# Altium integrated library Linear Technology Operational Amplifiers (LT1000).IntLib: 2280 symbols (part 4 of 79)
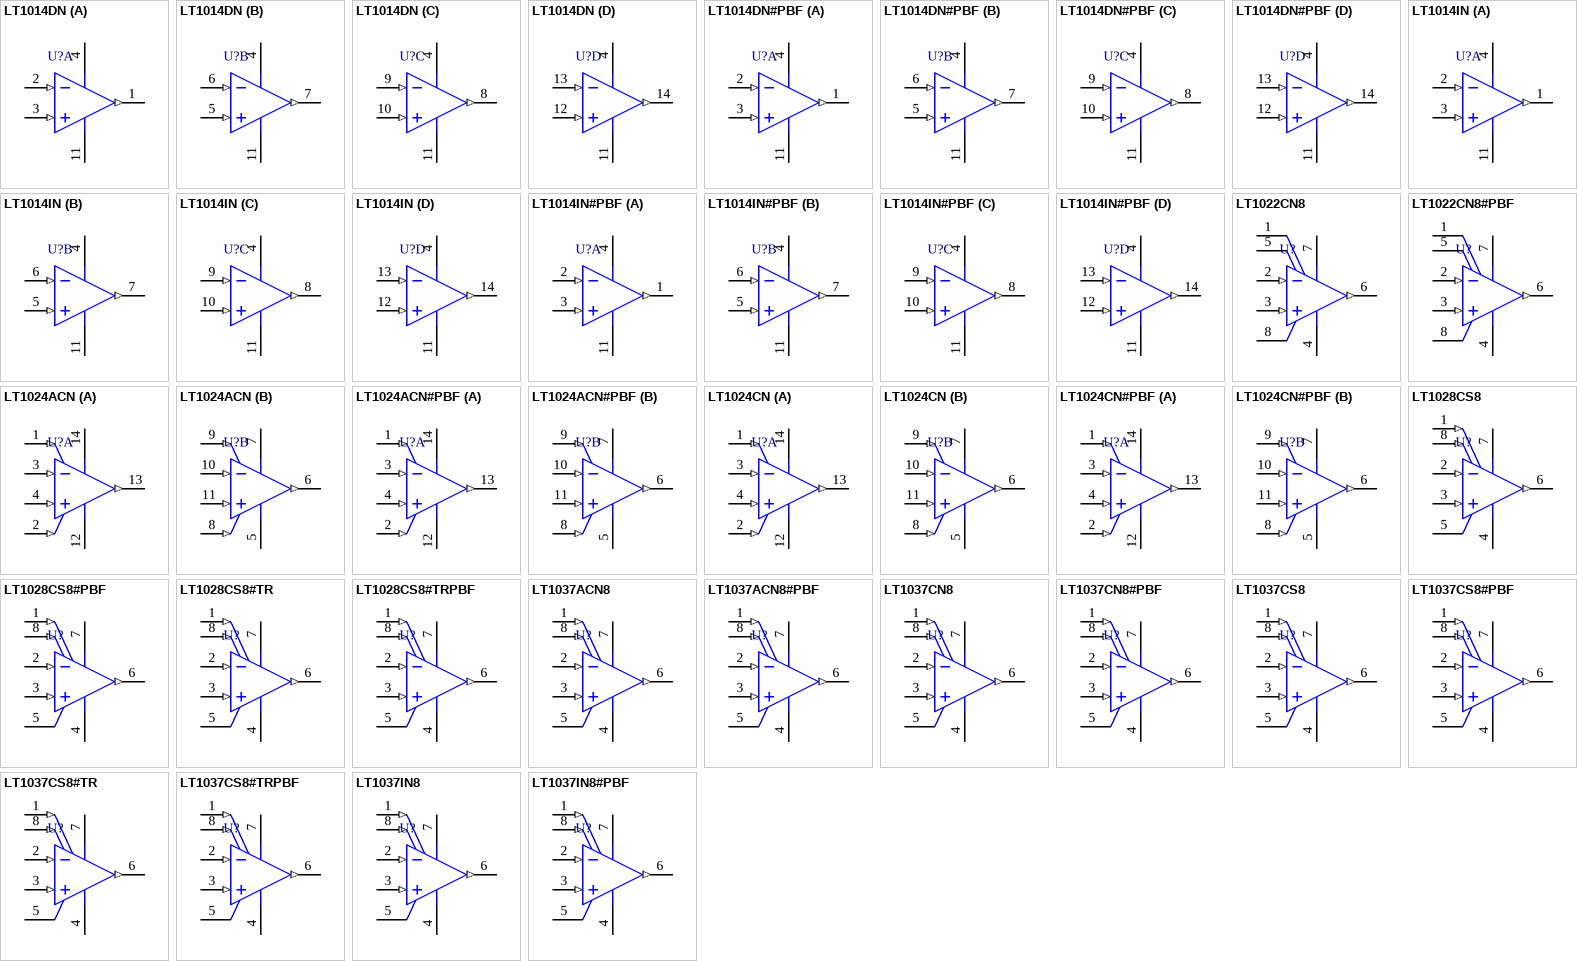
[diagram p108: symbols LT1014DN to LT1037IN8#PBF]

## LT1037CS8#TR
designator U?
Single Channel, Extremely low noise Operational Amplifier, 60 MHz Typical GBW, 15 V/us Typical SR, 8 to 44 V, 8-Pin SOIC (S8-8), Commerical, Reel; Linear Technology Part Number: LT1037; Manufacturer: Linear Technology; PartNumber: LT1037CS8#TR; Channels (#): 1; GBW (MHz) Typical: 60; Is (mA) Typical: 2.6; SR (V/us) Typical: 15; Vos (mV) Typical: 0.01; Vs Max (V): 44; Vs Min (V): 8; DatasheetVersion: Rev. B; PackageVersion: Rev G; PackageReference: LT-S8-8; PackageDescription: 8-Pin Plastic Small Outline, Body 4.9 x 3.9 mm, Pitch 1.27 mm; Supplier 1: Digi-Key; Supplier Part Number 1: LT1037CS8#TR-ND; Packing: Reel; Type: VFB; Mounting Technology: Surface Mount; ComponentLink1Description: Manufacturer URL; ComponentLink1URL: http://www.linear.com/; ComponentLink2Description: Datasheet; ComponentLink2URL: http://cds.linear.com/docs/en/datasheet/100737fbs.pdf; ComponentLink3Description: Package Specification; ComponentLink3URL: http://cds.linear.com/docs/en/packaging/05081610_G_SO8.pdf
footprint LT-S8-8_N (SOIC, 8-Leads, Body 4.9x3.9mm, Pitch 1.27mm, IPC Medium Density)
footprint LT-S8-8_L (SOIC, 8-Leads, Body 4.9x3.9mm, Pitch 1.27mm, IPC High Density)
footprint LT-S8-8_M (SOIC, 8-Leads, Body 4.9x3.9mm, Pitch 1.27mm, IPC Low Density)
pins: 1 VOS TRIM (in), 2 -IN (in), 3 +IN (in), 4 V- (power), 5 NC, 6 OUT (out), 7 V+ (power), 8 VOS TRIM (in)

## LT1037CS8#TRPBF
designator U?
Single Channel, Extremely low noise Operational Amplifier, 60 MHz Typical GBW, 15 V/us Typical SR, 8 to 44 V, 8-Pin SOIC (S8-8), Commerical, Pb-Free, Reel; Linear Technology Part Number: LT1037; Manufacturer: Linear Technology; PartNumber: LT1037CS8#TRPBF; Channels (#): 1; GBW (MHz) Typical: 60; Is (mA) Typical: 2.6; SR (V/us) Typical: 15; Vos (mV) Typical: 0.01; Vs Max (V): 44; Vs Min (V): 8; DatasheetVersion: Rev. B; PackageVersion: Rev G; PackageReference: LT-S8-8; PackageDescription: 8-Pin Plastic Small Outline, Body 4.9 x 3.9 mm, Pitch 1.27 mm; Supplier 1: Digi-Key; Supplier Part Number 1: LT1037CS8#TRPBF-ND; Supplier 2: Newark; Supplier Part Number 2: 57M1147; Packing: Reel; RoHS: Pb-Free; Type: VFB; Mounting Technology: Surface Mount; ComponentLink1Description: Manufacturer URL; ComponentLink1URL: http://www.linear.com/; ComponentLink2Description: Datasheet; ComponentLink2URL: http://cds.linear.com/docs/en/datasheet/100737fbs.pdf; ComponentLink3Description: Package Specification; ComponentLink3URL: http://cds.linear.com/docs/en/packaging/05081610_G_SO8.pdf
footprint LT-S8-8_N (SOIC, 8-Leads, Body 4.9x3.9mm, Pitch 1.27mm, IPC Medium Density)
footprint LT-S8-8_L (SOIC, 8-Leads, Body 4.9x3.9mm, Pitch 1.27mm, IPC High Density)
footprint LT-S8-8_M (SOIC, 8-Leads, Body 4.9x3.9mm, Pitch 1.27mm, IPC Low Density)
pins: 1 VOS TRIM (in), 2 -IN (in), 3 +IN (in), 4 V- (power), 5 NC, 6 OUT (out), 7 V+ (power), 8 VOS TRIM (in)

## LT1037IN8
designator U?
Single Channel, Extremely low noise Operational Amplifier, 60 MHz Typical GBW, 15 V/us Typical SR, 8 to 44 V, 8-Pin DIP (N8-8), Industrial; Linear Technology Part Number: LT1037; Manufacturer: Linear Technology; PartNumber: LT1037IN8; Channels (#): 1; GBW (MHz) Typical: 60; Is (mA) Typical: 2.6; SR (V/us) Typical: 15; Vos (mV) Typical: 0.01; Vs Max (V): 44; Vs Min (V): 8; DatasheetVersion: Rev. B; PackageVersion: Rev I; PackageReference: LT-N8-8; PackageDescription: 8-Lead PDIP, Body 10.16 x 6.48 mm, Pitch 2.54 mm; Supplier 1: Digi-Key; Supplier Part Number 1: LT1037IN8-ND; Type: VFB; Mounting Technology: Surface Mount; ComponentLink1Description: Manufacturer URL; ComponentLink1URL: http://www.linear.com/; ComponentLink2Description: Datasheet; ComponentLink2URL: http://cds.linear.com/docs/en/datasheet/100737fbs.pdf; ComponentLink3Description: Package Specification; ComponentLink3URL: http://cds.linear.com/docs/en/packaging/05081510_I_N8.pdf
footprint LT-N8-8 (DIP, 8-Leads, Body 10.16x6.48mm, Pitch 2.54mm)
pins: 1 VOS TRIM (in), 2 -IN (in), 3 +IN (in), 4 V- (power), 5 NC, 6 OUT (out), 7 V+ (power), 8 VOS TRIM (in)

## LT1037IN8#PBF
designator U?
Single Channel, Extremely low noise Operational Amplifier, 60 MHz Typical GBW, 15 V/us Typical SR, 8 to 44 V, 8-Pin DIP (N8-8), Industrial, Pb-Free; Linear Technology Part Number: LT1037; Manufacturer: Linear Technology; PartNumber: LT1037IN8#PBF; Channels (#): 1; GBW (MHz) Typical: 60; Is (mA) Typical: 2.6; SR (V/us) Typical: 15; Vos (mV) Typical: 0.01; Vs Max (V): 44; Vs Min (V): 8; DatasheetVersion: Rev. B; PackageVersion: Rev I; PackageReference: LT-N8-8; PackageDescription: 8-Lead PDIP, Body 10.16 x 6.48 mm, Pitch 2.54 mm; Supplier 1: Digi-Key; Supplier Part Number 1: LT1037IN8#PBF-ND; RoHS: Pb-Free; Type: VFB; Mounting Technology: Through Hole; ComponentLink1Description: Manufacturer URL; ComponentLink1URL: http://www.linear.com/; ComponentLink2Description: Datasheet; ComponentLink2URL: http://cds.linear.com/docs/en/datasheet/100737fbs.pdf; ComponentLink3Description: Package Specification; ComponentLink3URL: http://cds.linear.com/docs/en/packaging/05081510_I_N8.pdf
footprint LT-N8-8 (DIP, 8-Leads, Body 10.16x6.48mm, Pitch 2.54mm)
pins: 1 VOS TRIM (in), 2 -IN (in), 3 +IN (in), 4 V- (power), 5 NC, 6 OUT (out), 7 V+ (power), 8 VOS TRIM (in)

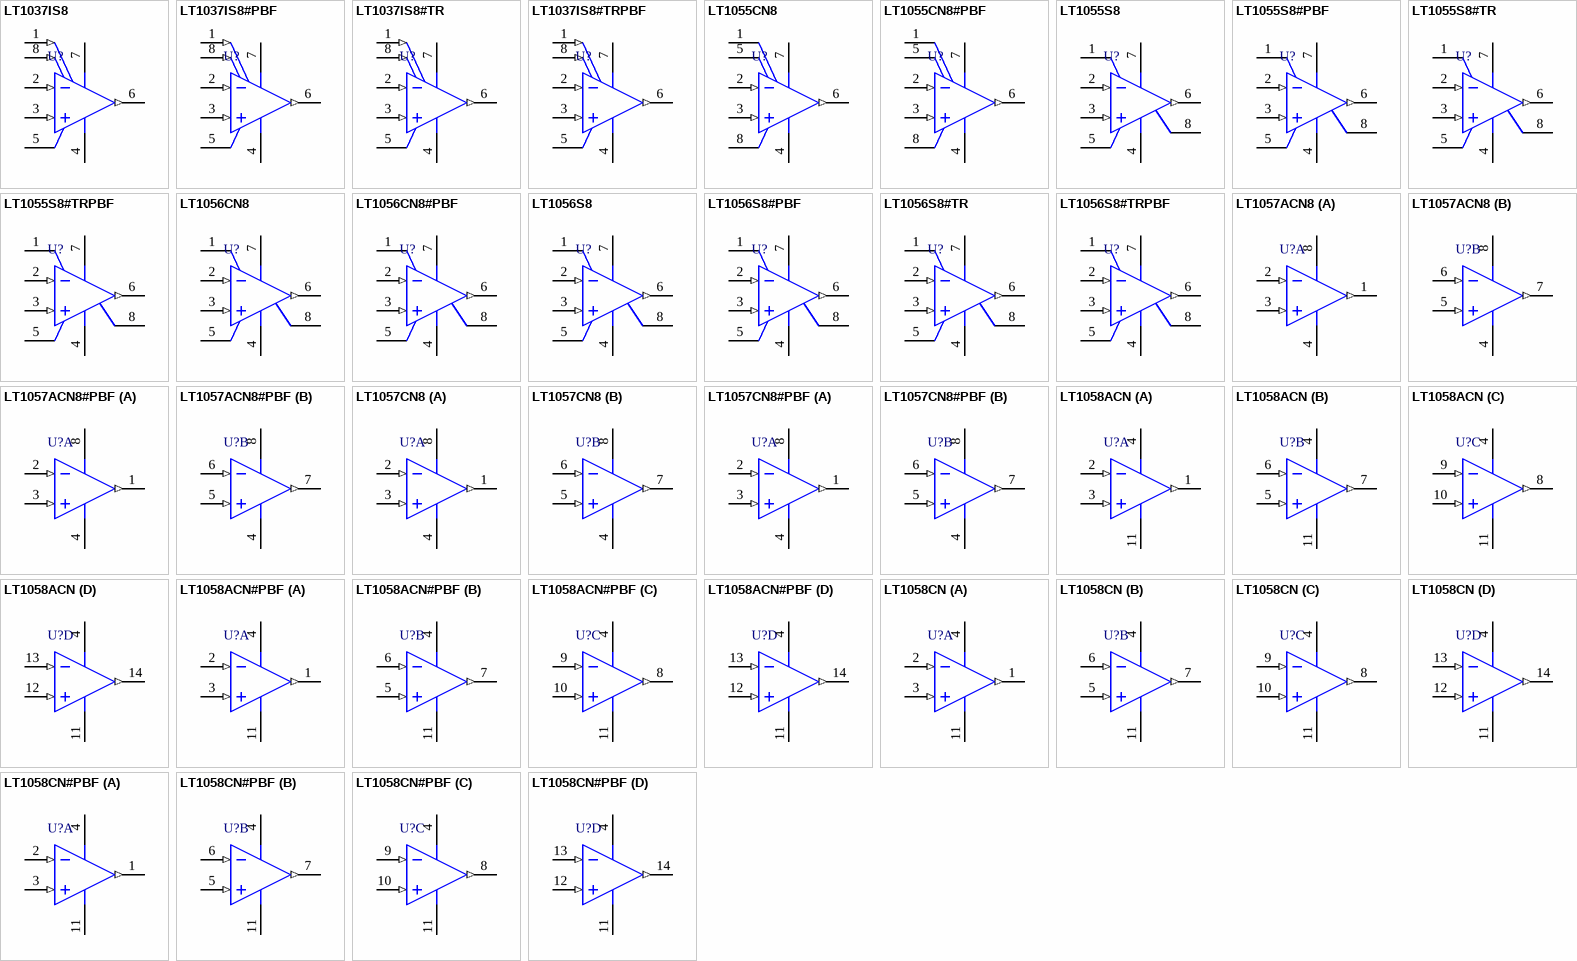
[diagram p4: symbols LT1037IS8 to LT1058CN#PBF]

## LT1037IS8
designator U?
Single Channel, Extremely low noise Operational Amplifier, 60 MHz Typical GBW, 15 V/us Typical SR, 8 to 44 V, 8-Pin SOIC (S8-8), Industrial; Linear Technology Part Number: LT1037; Manufacturer: Linear Technology; PartNumber: LT1037IS8; Channels (#): 1; GBW (MHz) Typical: 60; Is (mA) Typical: 2.6; SR (V/us) Typical: 15; Vos (mV) Typical: 0.01; Vs Max (V): 44; Vs Min (V): 8; DatasheetVersion: Rev. B; PackageVersion: Rev G; PackageReference: LT-S8-8; PackageDescription: 8-Pin Plastic Small Outline, Body 4.9 x 3.9 mm, Pitch 1.27 mm; Supplier 1: Digi-Key; Supplier Part Number 1: LT1037IS8-ND; Type: VFB; Mounting Technology: Surface Mount; ComponentLink1Description: Manufacturer URL; ComponentLink1URL: http://www.linear.com/; ComponentLink2Description: Datasheet; ComponentLink2URL: http://cds.linear.com/docs/en/datasheet/100737fbs.pdf; ComponentLink3Description: Package Specification; ComponentLink3URL: http://cds.linear.com/docs/en/packaging/05081610_G_SO8.pdf
footprint LT-S8-8_N (SOIC, 8-Leads, Body 4.9x3.9mm, Pitch 1.27mm, IPC Medium Density)
footprint LT-S8-8_L (SOIC, 8-Leads, Body 4.9x3.9mm, Pitch 1.27mm, IPC High Density)
footprint LT-S8-8_M (SOIC, 8-Leads, Body 4.9x3.9mm, Pitch 1.27mm, IPC Low Density)
pins: 1 VOS TRIM (in), 2 -IN (in), 3 +IN (in), 4 V- (power), 5 NC, 6 OUT (out), 7 V+ (power), 8 VOS TRIM (in)

## LT1037IS8#PBF
designator U?
Single Channel, Extremely low noise Operational Amplifier, 60 MHz Typical GBW, 15 V/us Typical SR, 8 to 44 V, 8-Pin SOIC (S8-8), Industrial, Pb-Free; Linear Technology Part Number: LT1037; Manufacturer: Linear Technology; PartNumber: LT1037IS8#PBF; Channels (#): 1; GBW (MHz) Typical: 60; Is (mA) Typical: 2.6; SR (V/us) Typical: 15; Vos (mV) Typical: 0.01; Vs Max (V): 44; Vs Min (V): 8; DatasheetVersion: Rev. B; PackageVersion: Rev G; PackageReference: LT-S8-8; PackageDescription: 8-Pin Plastic Small Outline, Body 4.9 x 3.9 mm, Pitch 1.27 mm; Supplier 1: Digi-Key; Supplier Part Number 1: LT1037IS8#PBF-ND; RoHS: Pb-Free; Type: VFB; Mounting Technology: Surface Mount; ComponentLink1Description: Manufacturer URL; ComponentLink1URL: http://www.linear.com/; ComponentLink2Description: Datasheet; ComponentLink2URL: http://cds.linear.com/docs/en/datasheet/100737fbs.pdf; ComponentLink3Description: Package Specification; ComponentLink3URL: http://cds.linear.com/docs/en/packaging/05081610_G_SO8.pdf
footprint LT-S8-8_N (SOIC, 8-Leads, Body 4.9x3.9mm, Pitch 1.27mm, IPC Medium Density)
footprint LT-S8-8_L (SOIC, 8-Leads, Body 4.9x3.9mm, Pitch 1.27mm, IPC High Density)
footprint LT-S8-8_M (SOIC, 8-Leads, Body 4.9x3.9mm, Pitch 1.27mm, IPC Low Density)
pins: 1 VOS TRIM (in), 2 -IN (in), 3 +IN (in), 4 V- (power), 5 NC, 6 OUT (out), 7 V+ (power), 8 VOS TRIM (in)

## LT1037IS8#TR
designator U?
Single Channel, Extremely low noise Operational Amplifier, 60 MHz Typical GBW, 15 V/us Typical SR, 8 to 44 V, 8-Pin SOIC (S8-8), Industrial, Reel; Linear Technology Part Number: LT1037; Manufacturer: Linear Technology; PartNumber: LT1037IS8#TR; Channels (#): 1; GBW (MHz) Typical: 60; Is (mA) Typical: 2.6; SR (V/us) Typical: 15; Vos (mV) Typical: 0.01; Vs Max (V): 44; Vs Min (V): 8; DatasheetVersion: Rev. B; PackageVersion: Rev G; PackageReference: LT-S8-8; PackageDescription: 8-Pin Plastic Small Outline, Body 4.9 x 3.9 mm, Pitch 1.27 mm; Supplier 1: Digi-Key; Supplier Part Number 1: LT1037IS8TR-ND; Packing: Reel; Type: VFB; Mounting Technology: Surface Mount; ComponentLink1Description: Manufacturer URL; ComponentLink1URL: http://www.linear.com/; ComponentLink2Description: Datasheet; ComponentLink2URL: http://cds.linear.com/docs/en/datasheet/100737fbs.pdf; ComponentLink3Description: Package Specification; ComponentLink3URL: http://cds.linear.com/docs/en/packaging/05081610_G_SO8.pdf
footprint LT-S8-8_N (SOIC, 8-Leads, Body 4.9x3.9mm, Pitch 1.27mm, IPC Medium Density)
footprint LT-S8-8_L (SOIC, 8-Leads, Body 4.9x3.9mm, Pitch 1.27mm, IPC High Density)
footprint LT-S8-8_M (SOIC, 8-Leads, Body 4.9x3.9mm, Pitch 1.27mm, IPC Low Density)
pins: 1 VOS TRIM (in), 2 -IN (in), 3 +IN (in), 4 V- (power), 5 NC, 6 OUT (out), 7 V+ (power), 8 VOS TRIM (in)

## LT1037IS8#TRPBF
designator U?
Single Channel, Extremely low noise Operational Amplifier, 60 MHz Typical GBW, 15 V/us Typical SR, 8 to 44 V, 8-Pin SOIC (S8-8), Industrial, Pb-Free, Reel; Linear Technology Part Number: LT1037; Manufacturer: Linear Technology; PartNumber: LT1037IS8#TRPBF; Channels (#): 1; GBW (MHz) Typical: 60; Is (mA) Typical: 2.6; SR (V/us) Typical: 15; Vos (mV) Typical: 0.01; Vs Max (V): 44; Vs Min (V): 8; DatasheetVersion: Rev. B; PackageVersion: Rev G; PackageReference: LT-S8-8; PackageDescription: 8-Pin Plastic Small Outline, Body 4.9 x 3.9 mm, Pitch 1.27 mm; Supplier 1: Digi-Key; Supplier Part Number 1: LT1037IS8#TRPBF-ND; Packing: Reel; RoHS: Pb-Free; Type: VFB; Mounting Technology: Surface Mount; ComponentLink1Description: Manufacturer URL; ComponentLink1URL: http://www.linear.com/; ComponentLink2Description: Datasheet; ComponentLink2URL: http://cds.linear.com/docs/en/datasheet/100737fbs.pdf; ComponentLink3Description: Package Specification; ComponentLink3URL: http://cds.linear.com/docs/en/packaging/05081610_G_SO8.pdf
footprint LT-S8-8_N (SOIC, 8-Leads, Body 4.9x3.9mm, Pitch 1.27mm, IPC Medium Density)
footprint LT-S8-8_L (SOIC, 8-Leads, Body 4.9x3.9mm, Pitch 1.27mm, IPC High Density)
footprint LT-S8-8_M (SOIC, 8-Leads, Body 4.9x3.9mm, Pitch 1.27mm, IPC Low Density)
pins: 1 VOS TRIM (in), 2 -IN (in), 3 +IN (in), 4 V- (power), 5 NC, 6 OUT (out), 7 V+ (power), 8 VOS TRIM (in)

## LT1055CN8
designator U?
Single Channel, Low Offset JFET Operational Amplifier, 4.5 MHz Typical GBW, 12 V/us Typical SR, 8 to 40 V, 8-Pin DIP (N8-8), Commercial; Linear Technology Part Number: LT1055; Manufacturer: Linear Technology; PartNumber: LT1055CN8; Channels (#): 1; GBW (MHz) Typical: 4.5; Is (mA) Typical: 2.8; SR (V/us) Typical: 12; Vos (mV) Typical: 0.12; Vs Max (V): 40; Vs Min (V): 8; DatasheetVersion: Rev. C; PackageVersion: Rev I; PackageReference: LT-N8-8; PackageDescription: 8-Lead PDIP, Body 10.16 x 6.48 mm, Pitch 2.54 mm; Supplier 1: Digi-Key; Supplier Part Number 1: LT1055CN8-ND; Supplier 2: Newark; Supplier Part Number 2: 57M1205; Type: JFET; Mounting Technology: Surface Mount; ComponentLink1Description: Manufacturer URL; ComponentLink1URL: http://www.linear.com/; ComponentLink2Description: Datasheet; ComponentLink2URL: http://cds.linear.com/docs/en/datasheet/10556fc.pdf; ComponentLink3Description: Package Specification; ComponentLink3URL: http://cds.linear.com/docs/en/packaging/05081510_I_N8.pdf
footprint LT-N8-8 (DIP, 8-Leads, Body 10.16x6.48mm, Pitch 2.54mm)
pins: 1 BAL, 2 -IN (in), 3 +IN (in), 4 V- (power), 5 BAL, 6 OUT (out), 7 V+ (power), 8 NC

## LT1055CN8#PBF
designator U?
Single Channel, Low Offset JFET Operational Amplifier, 4.5 MHz Typical GBW, 12 V/us Typical SR, 8 to 40 V, 8-Pin DIP (N8-8), Commercial, Pb-Free; Linear Technology Part Number: LT1055; Manufacturer: Linear Technology; PartNumber: LT1055CN8#PBF; Channels (#): 1; GBW (MHz) Typical: 4.5; Is (mA) Typical: 2.8; SR (V/us) Typical: 12; Vos (mV) Typical: 0.12; Vs Max (V): 40; Vs Min (V): 8; DatasheetVersion: Rev. C; PackageVersion: Rev I; PackageReference: LT-N8-8; PackageDescription: 8-Lead PDIP, Body 10.16 x 6.48 mm, Pitch 2.54 mm; Supplier 1: Digi-Key; Supplier Part Number 1: LT1055CN8#PBF-ND; Supplier 2: Farnell; Supplier Part Number 2: 2211386; Supplier 3: Newark; Supplier Part Number 3: 57M1206; RoHS: Pb-Free; Type: JFET; Mounting Technology: Through Hole; ComponentLink1Description: Manufacturer URL; ComponentLink1URL: http://www.linear.com/; ComponentLink2Description: Datasheet; ComponentLink2URL: http://cds.linear.com/docs/en/datasheet/10556fc.pdf; ComponentLink3Description: Package Specification; ComponentLink3URL: http://cds.linear.com/docs/en/packaging/05081510_I_N8.pdf
footprint LT-N8-8 (DIP, 8-Leads, Body 10.16x6.48mm, Pitch 2.54mm)
pins: 1 BAL, 2 -IN (in), 3 +IN (in), 4 V- (power), 5 BAL, 6 OUT (out), 7 V+ (power), 8 NC

## LT1055S8
designator U?
Single Channel, Low offset JFET Operational Amplifier, 4.5 MHz Typical GBW, 12 V/us Typical SR, 8 to 40 V, 8-Pin SOIC (S8-8), Commercial; Linear Technology Part Number: LT1055; Manufacturer: Linear Technology; PartNumber: LT1055S8; Channels (#): 1; GBW (MHz) Typical: 4.5; Is (mA) Typical: 2.8; SR (V/us) Typical: 12; Vos (mV) Typical: 0.12; Vs Max (V): 40; Vs Min (V): 8; DatasheetVersion: Rev. C; PackageVersion: Rev G; PackageReference: LT-S8-8; PackageDescription: 8-Pin Plastic Small Outline, Body 4.9 x 3.9 mm, Pitch 1.27 mm; Supplier 1: Digi-Key; Supplier Part Number 1: LT1055S8-ND; Type: JFET; Mounting Technology: Surface Mount; ComponentLink1Description: Manufacturer URL; ComponentLink1URL: http://www.linear.com/; ComponentLink2Description: Datasheet; ComponentLink2URL: http://cds.linear.com/docs/en/datasheet/10556fc.pdf; ComponentLink3Description: Package Specification; ComponentLink3URL: http://cds.linear.com/docs/en/packaging/05081610_G_SO8.pdf
footprint LT-S8-8_N (SOIC, 8-Leads, Body 4.9x3.9mm, Pitch 1.27mm, IPC Medium Density)
footprint LT-S8-8_L (SOIC, 8-Leads, Body 4.9x3.9mm, Pitch 1.27mm, IPC High Density)
footprint LT-S8-8_M (SOIC, 8-Leads, Body 4.9x3.9mm, Pitch 1.27mm, IPC Low Density)
pins: 1 BAL, 2 -IN (in), 3 +IN (in), 4 V- (power), 5 BAL, 6 OUT (out), 7 V+ (power), 8 NC

## LT1055S8#PBF
designator U?
Single Channel, Low offset JFET Operational Amplifier, 4.5 MHz Typical GBW, 12 V/us Typical SR, 8 to 40 V, 8-Pin SOIC (S8-8), Commercial, Pb-Free; Linear Technology Part Number: LT1055; Manufacturer: Linear Technology; PartNumber: LT1055S8#PBF; Channels (#): 1; GBW (MHz) Typical: 4.5; Is (mA) Typical: 2.8; SR (V/us) Typical: 12; Vos (mV) Typical: 0.12; Vs Max (V): 40; Vs Min (V): 8; DatasheetVersion: Rev. C; PackageVersion: Rev G; PackageReference: LT-S8-8; PackageDescription: 8-Pin Plastic Small Outline, Body 4.9 x 3.9 mm, Pitch 1.27 mm; Supplier 1: Digi-Key; Supplier Part Number 1: LT1055S8#PBF-ND; Supplier 2: Farnell; Supplier Part Number 2: 1330569; Supplier 3: Newark; Supplier Part Number 3: 57M1208; RoHS: Pb-Free; Type: JFET; Mounting Technology: Surface Mount; ComponentLink1Description: Manufacturer URL; ComponentLink1URL: http://www.linear.com/; ComponentLink2Description: Datasheet; ComponentLink2URL: http://cds.linear.com/docs/en/datasheet/10556fc.pdf; ComponentLink3Description: Package Specification; ComponentLink3URL: http://cds.linear.com/docs/en/packaging/05081610_G_SO8.pdf
footprint LT-S8-8_N (SOIC, 8-Leads, Body 4.9x3.9mm, Pitch 1.27mm, IPC Medium Density)
footprint LT-S8-8_L (SOIC, 8-Leads, Body 4.9x3.9mm, Pitch 1.27mm, IPC High Density)
footprint LT-S8-8_M (SOIC, 8-Leads, Body 4.9x3.9mm, Pitch 1.27mm, IPC Low Density)
pins: 1 BAL, 2 -IN (in), 3 +IN (in), 4 V- (power), 5 BAL, 6 OUT (out), 7 V+ (power), 8 NC

## LT1055S8#TR
designator U?
Single Channel, Low offset JFET Operational Amplifier, 4.5 MHz Typical GBW, 12 V/us Typical SR, 8 to 40 V, 8-Pin SOIC (S8-8), Commercial, Reel; Linear Technology Part Number: LT1055; Manufacturer: Linear Technology; PartNumber: LT1055S8#TR; Channels (#): 1; GBW (MHz) Typical: 4.5; Is (mA) Typical: 2.8; SR (V/us) Typical: 12; Vos (mV) Typical: 0.12; Vs Max (V): 40; Vs Min (V): 8; DatasheetVersion: Rev. C; PackageVersion: Rev G; PackageReference: LT-S8-8; PackageDescription: 8-Pin Plastic Small Outline, Body 4.9 x 3.9 mm, Pitch 1.27 mm; Supplier 1: Digi-Key; Supplier Part Number 1: LT1055S8#TR-ND; Packing: Reel; Type: JFET; Mounting Technology: Surface Mount; ComponentLink1Description: Manufacturer URL; ComponentLink1URL: http://www.linear.com/; ComponentLink2Description: Datasheet; ComponentLink2URL: http://cds.linear.com/docs/en/datasheet/10556fc.pdf; ComponentLink3Description: Package Specification; ComponentLink3URL: http://cds.linear.com/docs/en/packaging/05081610_G_SO8.pdf
footprint LT-S8-8_N (SOIC, 8-Leads, Body 4.9x3.9mm, Pitch 1.27mm, IPC Medium Density)
footprint LT-S8-8_L (SOIC, 8-Leads, Body 4.9x3.9mm, Pitch 1.27mm, IPC High Density)
footprint LT-S8-8_M (SOIC, 8-Leads, Body 4.9x3.9mm, Pitch 1.27mm, IPC Low Density)
pins: 1 BAL, 2 -IN (in), 3 +IN (in), 4 V- (power), 5 BAL, 6 OUT (out), 7 V+ (power), 8 NC

## LT1055S8#TRPBF
designator U?
Single Channel, Low offset JFET Operational Amplifier, 4.5 MHz Typical GBW, 12 V/us Typical SR, 8 to 40 V, 8-Pin SOIC (S8-8), Commercial, Pb-Free, Reel; Linear Technology Part Number: LT1055; Manufacturer: Linear Technology; PartNumber: LT1055S8#TRPBF; Channels (#): 1; GBW (MHz) Typical: 4.5; Is (mA) Typical: 2.8; SR (V/us) Typical: 12; Vos (mV) Typical: 0.12; Vs Max (V): 40; Vs Min (V): 8; DatasheetVersion: Rev. C; PackageVersion: Rev G; PackageReference: LT-S8-8; PackageDescription: 8-Pin Plastic Small Outline, Body 4.9 x 3.9 mm, Pitch 1.27 mm; Supplier 1: Digi-Key; Supplier Part Number 1: LT1055S8#TRPBF-ND; Supplier 2: Newark; Supplier Part Number 2: 57M1210; Packing: Reel; RoHS: Pb-Free; Type: JFET; Mounting Technology: Surface Mount; ComponentLink1Description: Manufacturer URL; ComponentLink1URL: http://www.linear.com/; ComponentLink2Description: Datasheet; ComponentLink2URL: http://cds.linear.com/docs/en/datasheet/10556fc.pdf; ComponentLink3Description: Package Specification; ComponentLink3URL: http://cds.linear.com/docs/en/packaging/05081610_G_SO8.pdf
footprint LT-S8-8_N (SOIC, 8-Leads, Body 4.9x3.9mm, Pitch 1.27mm, IPC Medium Density)
footprint LT-S8-8_L (SOIC, 8-Leads, Body 4.9x3.9mm, Pitch 1.27mm, IPC High Density)
footprint LT-S8-8_M (SOIC, 8-Leads, Body 4.9x3.9mm, Pitch 1.27mm, IPC Low Density)
pins: 1 BAL, 2 -IN (in), 3 +IN (in), 4 V- (power), 5 BAL, 6 OUT (out), 7 V+ (power), 8 NC

## LT1056CN8
designator U?
Single Channel, Low offset JFET Operational Amplifier, 5.5 MHz Typical GBW, 14 V/us Typical SR, 8 to 40 V, 8-Pin DIP (N8-8), Commerical; Linear Technology Part Number: LT1056; Manufacturer: Linear Technology; PartNumber: LT1056CN8; Channels (#): 1; GBW (MHz) Typical: 5.5; Is (mA) Typical: 5; SR (V/us) Typical: 14; Vos (mV) Typical: 0.14; Vs Max (V): 40; Vs Min (V): 8; DatasheetVersion: Rev. C; PackageVersion: Rev I; PackageReference: LT-N8-8; PackageDescription: 8-Lead PDIP, Body 10.16 x 6.48 mm, Pitch 2.54 mm; Supplier 1: Digi-Key; Supplier Part Number 1: LT1056CN8-ND; Supplier 2: Newark; Supplier Part Number 2: 57M1211; Type: JFET; Mounting Technology: Through Hole; ComponentLink1Description: Manufacturer URL; ComponentLink1URL: http://www.linear.com/; ComponentLink2Description: Datasheet; ComponentLink2URL: http://cds.linear.com/docs/en/datasheet/10556fc.pdf; ComponentLink3Description: Package Specification; ComponentLink3URL: http://cds.linear.com/docs/en/packaging/05081510_I_N8.pdf
footprint LT-N8-8 (DIP, 8-Leads, Body 10.16x6.48mm, Pitch 2.54mm)
pins: 1 BAL, 2 -IN (in), 3 +IN (in), 4 V- (power), 5 BAL, 6 OUT (out), 7 V+ (power), 8 NC

## LT1056CN8#PBF
designator U?
Single Channel, Low offset JFET Operational Amplifier, 5.5 MHz Typical GBW, 14 V/us Typical SR, 8 to 40 V, 8-Pin DIP (N8-8), Commerical, Pb-Free; Linear Technology Part Number: LT1056; Manufacturer: Linear Technology; PartNumber: LT1056CN8#PBF; Channels (#): 1; GBW (MHz) Typical: 5.5; Is (mA) Typical: 5; SR (V/us) Typical: 14; Vos (mV) Typical: 0.14; Vs Max (V): 40; Vs Min (V): 8; DatasheetVersion: Rev. C; PackageVersion: Rev I; PackageReference: LT-N8-8; PackageDescription: 8-Lead PDIP, Body 10.16 x 6.48 mm, Pitch 2.54 mm; Supplier 1: Digi-Key; Supplier Part Number 1: LT1056CN8#PBF-ND; Supplier 2: Farnell; Supplier Part Number 2: 2191700; Supplier 3: Newark; Supplier Part Number 3: 57M1212; RoHS: Pb-Free; Type: JFET; Mounting Technology: Surface Mount; ComponentLink1Description: Manufacturer URL; ComponentLink1URL: http://www.linear.com/; ComponentLink2Description: Datasheet; ComponentLink2URL: http://cds.linear.com/docs/en/datasheet/10556fc.pdf; ComponentLink3Description: Package Specification; ComponentLink3URL: http://cds.linear.com/docs/en/packaging/05081510_I_N8.pdf
footprint LT-N8-8 (DIP, 8-Leads, Body 10.16x6.48mm, Pitch 2.54mm)
pins: 1 BAL, 2 -IN (in), 3 +IN (in), 4 V- (power), 5 BAL, 6 OUT (out), 7 V+ (power), 8 NC

## LT1056S8
designator U?
Single Channel, Low offset JFET Operational Amplifier, 5.5 MHz Typical GBW, 14 V/us Typical SR, 8 to 40 V, 8-Pin SOIC (S8-8), Commerical; Linear Technology Part Number: LT1056; Manufacturer: Linear Technology; PartNumber: LT1056S8; Channels (#): 1; GBW (MHz) Typical: 5.5; Is (mA) Typical: 5; SR (V/us) Typical: 14; Vos (mV) Typical: 0.14; Vs Max (V): 40; Vs Min (V): 8; DatasheetVersion: Rev. C; PackageVersion: Rev G; PackageReference: LT-S8-8; PackageDescription: 8-Pin Plastic Small Outline, Body 4.9 x 3.9 mm, Pitch 1.27 mm; Supplier 1: Digi-Key; Supplier Part Number 1: LT1056S8-ND; Type: JFET; Mounting Technology: Surface Mount; ComponentLink1Description: Manufacturer URL; ComponentLink1URL: http://www.linear.com/; ComponentLink2Description: Datasheet; ComponentLink2URL: http://cds.linear.com/docs/en/datasheet/10556fc.pdf; ComponentLink3Description: Package Specification; ComponentLink3URL: http://cds.linear.com/docs/en/packaging/05081610_G_SO8.pdf
footprint LT-S8-8_N (SOIC, 8-Leads, Body 4.9x3.9mm, Pitch 1.27mm, IPC Medium Density)
footprint LT-S8-8_L (SOIC, 8-Leads, Body 4.9x3.9mm, Pitch 1.27mm, IPC High Density)
footprint LT-S8-8_M (SOIC, 8-Leads, Body 4.9x3.9mm, Pitch 1.27mm, IPC Low Density)
pins: 1 BAL, 2 -IN (in), 3 +IN (in), 4 V- (power), 5 BAL, 6 OUT (out), 7 V+ (power), 8 NC

## LT1056S8#PBF
designator U?
Single Channel, Low offset JFET Operational Amplifier, 5.5 MHz Typical GBW, 14 V/us Typical SR, 8 to 40 V, 8-Pin SOIC (S8-8), Commerical, Pb-Free; Linear Technology Part Number: LT1056; Manufacturer: Linear Technology; PartNumber: LT1056S8#PBF; Channels (#): 1; GBW (MHz) Typical: 5.5; Is (mA) Typical: 5; SR (V/us) Typical: 14; Vos (mV) Typical: 0.14; Vs Max (V): 40; Vs Min (V): 8; DatasheetVersion: Rev. C; PackageVersion: Rev G; PackageReference: LT-S8-8; PackageDescription: 8-Pin Plastic Small Outline, Body 4.9 x 3.9 mm, Pitch 1.27 mm; Supplier 1: Digi-Key; Supplier Part Number 1: LT1056S8#PBF-ND; Supplier 2: Newark; Supplier Part Number 2: 57M1214; RoHS: Pb-Free; Type: JFET; Mounting Technology: Surface Mount; ComponentLink1Description: Manufacturer URL; ComponentLink1URL: http://www.linear.com/; ComponentLink2Description: Datasheet; ComponentLink2URL: http://cds.linear.com/docs/en/datasheet/10556fc.pdf; ComponentLink3Description: Package Specification; ComponentLink3URL: http://cds.linear.com/docs/en/packaging/05081610_G_SO8.pdf
footprint LT-S8-8_N (SOIC, 8-Leads, Body 4.9x3.9mm, Pitch 1.27mm, IPC Medium Density)
footprint LT-S8-8_L (SOIC, 8-Leads, Body 4.9x3.9mm, Pitch 1.27mm, IPC High Density)
footprint LT-S8-8_M (SOIC, 8-Leads, Body 4.9x3.9mm, Pitch 1.27mm, IPC Low Density)
pins: 1 BAL, 2 -IN (in), 3 +IN (in), 4 V- (power), 5 BAL, 6 OUT (out), 7 V+ (power), 8 NC

## LT1056S8#TR
designator U?
Single Channel, Low offset JFET Operational Amplifier, 5.5 MHz Typical GBW, 14 V/us Typical SR, 8 to 40 V, 8-Pin SOIC (S8-8), Commerical, Reel; Linear Technology Part Number: LT1056; Manufacturer: Linear Technology; PartNumber: LT1056S8#TR; Channels (#): 1; GBW (MHz) Typical: 5.5; Is (mA) Typical: 5; SR (V/us) Typical: 14; Vos (mV) Typical: 0.14; Vs Max (V): 40; Vs Min (V): 8; DatasheetVersion: Rev. C; PackageVersion: Rev G; PackageReference: LT-S8-8; PackageDescription: 8-Pin Plastic Small Outline, Body 4.9 x 3.9 mm, Pitch 1.27 mm; Supplier 1: Digi-Key; Supplier Part Number 1: LT1056S8#TR-ND; Packing: Reel; Type: JFET; Mounting Technology: Surface Mount; ComponentLink1Description: Manufacturer URL; ComponentLink1URL: http://www.linear.com/; ComponentLink2Description: Datasheet; ComponentLink2URL: http://cds.linear.com/docs/en/datasheet/10556fc.pdf; ComponentLink3Description: Package Specification; ComponentLink3URL: http://cds.linear.com/docs/en/packaging/05081610_G_SO8.pdf
footprint LT-S8-8_N (SOIC, 8-Leads, Body 4.9x3.9mm, Pitch 1.27mm, IPC Medium Density)
footprint LT-S8-8_L (SOIC, 8-Leads, Body 4.9x3.9mm, Pitch 1.27mm, IPC High Density)
footprint LT-S8-8_M (SOIC, 8-Leads, Body 4.9x3.9mm, Pitch 1.27mm, IPC Low Density)
pins: 1 BAL, 2 -IN (in), 3 +IN (in), 4 V- (power), 5 BAL, 6 OUT (out), 7 V+ (power), 8 NC

## LT1056S8#TRPBF
designator U?
Single Channel, Low offset JFET Operational Amplifier, 5.5 MHz Typical GBW, 14 V/us Typical SR, 8 to 40 V, 8-Pin SOIC (S8-8), Commerical, Pb-Free, Reel; Linear Technology Part Number: LT1056; Manufacturer: Linear Technology; PartNumber: LT1056S8#TRPBF; Channels (#): 1; GBW (MHz) Typical: 5.5; Is (mA) Typical: 5; SR (V/us) Typical: 14; Vos (mV) Typical: 0.14; Vs Max (V): 40; Vs Min (V): 8; DatasheetVersion: Rev. C; PackageVersion: Rev G; PackageReference: LT-S8-8; PackageDescription: 8-Pin Plastic Small Outline, Body 4.9 x 3.9 mm, Pitch 1.27 mm; Supplier 1: Digi-Key; Supplier Part Number 1: LT1056S8#TRPBF-ND; Packing: Reel; RoHS: Pb-Free; Type: JFET; Mounting Technology: Surface Mount; ComponentLink1Description: Manufacturer URL; ComponentLink1URL: http://www.linear.com/; ComponentLink2Description: Datasheet; ComponentLink2URL: http://cds.linear.com/docs/en/datasheet/10556fc.pdf; ComponentLink3Description: Package Specification; ComponentLink3URL: http://cds.linear.com/docs/en/packaging/05081610_G_SO8.pdf
footprint LT-S8-8_N (SOIC, 8-Leads, Body 4.9x3.9mm, Pitch 1.27mm, IPC Medium Density)
footprint LT-S8-8_L (SOIC, 8-Leads, Body 4.9x3.9mm, Pitch 1.27mm, IPC High Density)
footprint LT-S8-8_M (SOIC, 8-Leads, Body 4.9x3.9mm, Pitch 1.27mm, IPC Low Density)
pins: 1 BAL, 2 -IN (in), 3 +IN (in), 4 V- (power), 5 BAL, 6 OUT (out), 7 V+ (power), 8 NC

## LT1057ACN8
designator U?
Dual Channel, High speed JFET Operational Amplifier, 5 MHz Typical GBW, 14 V/us Typical SR, 8 to 40 V, 8-Pin DIP (N8-8), Commerical; Linear Technology Part Number: LT1057; Manufacturer: Linear Technology; PartNumber: LT1057ACN8; Channels (#): 2; GBW (MHz) Typical: 5; Is (mA) Typical: 1.6; SR (V/us) Typical: 14; Vos (mV) Typical: 0.15; Vs Max (V): 40; Vs Min (V): 8; DatasheetVersion: Rev. D; PackageVersion: Rev I; PackageReference: LT-N8-8; PackageDescription: 8-Lead PDIP, Body 10.16 x 6.48 mm, Pitch 2.54 mm; Supplier 1: Digi-Key; Supplier Part Number 1: LT1057ACN8-ND; Supplier 2: Newark; Supplier Part Number 2: 57M1217; Type: JFET; Mounting Technology: Surface Mount; ComponentLink1Description: Manufacturer URL; ComponentLink1URL: http://www.linear.com/; ComponentLink2Description: Datasheet; ComponentLink2URL: http://cds.linear.com/docs/en/datasheet/10578fd.pdf; ComponentLink3Description: Package Specification; ComponentLink3URL: http://cds.linear.com/docs/en/packaging/05081510_I_N8.pdf
footprint LT-N8-8 (DIP, 8-Leads, Body 10.16x6.48mm, Pitch 2.54mm)
pins on every part: 4 V- (power), 8 V+ (power)
part A pins: 1 OUTPUT A (out), 2 -IN A (in), 3 +IN A (in)
part B pins: 5 +IN B (in), 6 -IN B (in), 7 OUTPUT B (out)

## LT1057ACN8#PBF
designator U?
Dual Channel, High speed JFET Operational Amplifier, 5 MHz Typical GBW, 14 V/us Typical SR, 8 to 40 V, 8-Pin DIP (N8-8), Commerical, Pb-Free; Linear Technology Part Number: LT1057; Manufacturer: Linear Technology; PartNumber: LT1057ACN8#PBF; Channels (#): 2; GBW (MHz) Typical: 5; Is (mA) Typical: 1.6; SR (V/us) Typical: 14; Vos (mV) Typical: 0.15; Vs Max (V): 40; Vs Min (V): 8; DatasheetVersion: Rev. D; PackageVersion: Rev I; PackageReference: LT-N8-8; PackageDescription: 8-Lead PDIP, Body 10.16 x 6.48 mm, Pitch 2.54 mm; Supplier 1: Digi-Key; Supplier Part Number 1: LT1057ACN8#PBF-ND; Supplier 2: Newark; Supplier Part Number 2: 57M1218; RoHS: Pb-Free; Type: JFET; Mounting Technology: Through Hole; ComponentLink1Description: Manufacturer URL; ComponentLink1URL: http://www.linear.com/; ComponentLink2Description: Datasheet; ComponentLink2URL: http://cds.linear.com/docs/en/datasheet/10578fd.pdf; ComponentLink3Description: Package Specification; ComponentLink3URL: http://cds.linear.com/docs/en/packaging/05081510_I_N8.pdf
footprint LT-N8-8 (DIP, 8-Leads, Body 10.16x6.48mm, Pitch 2.54mm)
pins on every part: 4 V- (power), 8 V+ (power)
part A pins: 1 OUTPUT A (out), 2 -IN A (in), 3 +IN A (in)
part B pins: 5 +IN B (in), 6 -IN B (in), 7 OUTPUT B (out)

## LT1057CN8
designator U?
Dual Channel, High speed JFET Operational Amplifier, 5 MHz Typical GBW, 14 V/us Typical SR, 8 to 40 V, 8-Pin DIP (N8-8), Commerical; Linear Technology Part Number: LT1057; Manufacturer: Linear Technology; PartNumber: LT1057CN8; Channels (#): 2; GBW (MHz) Typical: 5; Is (mA) Typical: 1.6; SR (V/us) Typical: 14; Vos (mV) Typical: 0.15; Vs Max (V): 40; Vs Min (V): 8; DatasheetVersion: Rev. D; PackageVersion: Rev I; PackageReference: LT-N8-8; PackageDescription: 8-Lead PDIP, Body 10.16 x 6.48 mm, Pitch 2.54 mm; Supplier 1: Digi-Key; Supplier Part Number 1: LT1057CN8-ND; Supplier 2: Newark; Supplier Part Number 2: 57M1219; Type: JFET; Mounting Technology: Through Hole; ComponentLink1Description: Manufacturer URL; ComponentLink1URL: http://www.linear.com/; ComponentLink2Description: Datasheet; ComponentLink2URL: http://cds.linear.com/docs/en/datasheet/10578fd.pdf; ComponentLink3Description: Package Specification; ComponentLink3URL: http://cds.linear.com/docs/en/packaging/05081510_I_N8.pdf
footprint LT-N8-8 (DIP, 8-Leads, Body 10.16x6.48mm, Pitch 2.54mm)
pins on every part: 4 V- (power), 8 V+ (power)
part A pins: 1 OUTPUT A (out), 2 -IN A (in), 3 +IN A (in)
part B pins: 5 +IN B (in), 6 -IN B (in), 7 OUTPUT B (out)

## LT1057CN8#PBF
designator U?
Dual Channel, High speed JFET Operational Amplifier, 5 MHz Typical GBW, 14 V/us Typical SR, 8 to 40 V, 8-Pin DIP (N8-8), Commerical, Pb-Free; Linear Technology Part Number: LT1057; Manufacturer: Linear Technology; PartNumber: LT1057CN8#PBF; Channels (#): 2; GBW (MHz) Typical: 5; Is (mA) Typical: 1.6; SR (V/us) Typical: 14; Vos (mV) Typical: 0.15; Vs Max (V): 40; Vs Min (V): 8; DatasheetVersion: Rev. D; PackageVersion: Rev I; PackageReference: LT-N8-8; PackageDescription: 8-Lead PDIP, Body 10.16 x 6.48 mm, Pitch 2.54 mm; Supplier 1: Digi-Key; Supplier Part Number 1: LT1057CN8#PBF-ND; Supplier 2: Farnell; Supplier Part Number 2: 9559531; Supplier 3: Newark; Supplier Part Number 3: 57M1220; RoHS: Pb-Free; Type: JFET; Mounting Technology: Through Hole; ComponentLink1Description: Manufacturer URL; ComponentLink1URL: http://www.linear.com/; ComponentLink2Description: Datasheet; ComponentLink2URL: http://cds.linear.com/docs/en/datasheet/10578fd.pdf; ComponentLink3Description: Package Specification; ComponentLink3URL: http://cds.linear.com/docs/en/packaging/05081510_I_N8.pdf
footprint LT-N8-8 (DIP, 8-Leads, Body 10.16x6.48mm, Pitch 2.54mm)
pins on every part: 4 V- (power), 8 V+ (power)
part A pins: 1 OUTPUT A (out), 2 -IN A (in), 3 +IN A (in)
part B pins: 5 +IN B (in), 6 -IN B (in), 7 OUTPUT B (out)

## LT1058ACN
designator U?
Quad Channel, Low offset JFET Operational Amplifier, 5 MHz Typical GBW, 14 V/us Typical SR, 8 to 40 V, 14-Pin DIP (N-14), Commerical; Linear Technology Part Number: LT1058; Manufacturer: Linear Technology; PartNumber: LT1058ACN; Channels (#): 4; GBW (MHz) Typical: 5; Is (mA) Typical: 1.6; SR (V/us) Typical: 14; Vos (mV) Typical: 0.18; Vs Max (V): 40; Vs Min (V): 8; DatasheetVersion: Rev. D; PackageVersion: Rev I; PackageReference: LT-N-14; PackageDescription: 14-Lead PDIP, Body 19.558 x 6.477 mm, Pitch 2.54 mm; Supplier 1: Digi-Key; Supplier Part Number 1: LT1058ACN-ND; Type: JFET; Mounting Technology: Through Hole; ComponentLink1Description: Manufacturer URL; ComponentLink1URL: http://www.linear.com/; ComponentLink2Description: Datasheet; ComponentLink2URL: http://cds.linear.com/docs/en/datasheet/10578fd.pdf; ComponentLink3Description: Package Specification; ComponentLink3URL: http://cds.linear.com/docs/en/packaging/05081510_I_N14.pdf
footprint LT-N-14 (DIP, 14-Leads, Body 19.558x6.477mm, Pitch 2.54mm)
pins on every part: 4 V+ (power), 11 V- (power)
part A pins: 1 OUTPUT A (out), 2 -IN A (in), 3 +IN A (in)
part B pins: 5 +IN B (in), 6 -IN B (in), 7 OUTPUT B (out)
part C pins: 8 OUTPUT C (out), 9 -IN C (in), 10 +IN C (in)
part D pins: 12 +IN D (in), 13 -IN D (in), 14 OUTPUT D (out)

## LT1058ACN#PBF
designator U?
Quad Channel, Low offset JFET Operational Amplifier, 5 MHz Typical GBW, 14 V/us Typical SR, 8 to 40 V, 14-Pin DIP (N-14), Commerical, Pb-Free; Linear Technology Part Number: LT1058; Manufacturer: Linear Technology; PartNumber: LT1058ACN#PBF; Channels (#): 4; GBW (MHz) Typical: 5; Is (mA) Typical: 1.6; SR (V/us) Typical: 14; Vos (mV) Typical: 0.18; Vs Max (V): 40; Vs Min (V): 8; DatasheetVersion: Rev. D; PackageVersion: Rev I; PackageReference: LT-N-14; PackageDescription: 14-Lead PDIP, Body 19.558 x 6.477 mm, Pitch 2.54 mm; Supplier 1: Digi-Key; Supplier Part Number 1: LT1058ACN#PBF-ND; Supplier 2: Farnell; Supplier Part Number 2: 1663344; Supplier 3: Newark; Supplier Part Number 3: 57M1230; RoHS: Pb-Free; Type: JFET; Mounting Technology: Surface Mount; ComponentLink1Description: Manufacturer URL; ComponentLink1URL: http://www.linear.com/; ComponentLink2Description: Datasheet; ComponentLink2URL: http://cds.linear.com/docs/en/datasheet/10578fd.pdf; ComponentLink3Description: Package Specification; ComponentLink3URL: http://cds.linear.com/docs/en/packaging/05081510_I_N14.pdf
footprint LT-N-14 (DIP, 14-Leads, Body 19.558x6.477mm, Pitch 2.54mm)
pins on every part: 4 V+ (power), 11 V- (power)
part A pins: 1 OUTPUT A (out), 2 -IN A (in), 3 +IN A (in)
part B pins: 5 +IN B (in), 6 -IN B (in), 7 OUTPUT B (out)
part C pins: 8 OUTPUT C (out), 9 -IN C (in), 10 +IN C (in)
part D pins: 12 +IN D (in), 13 -IN D (in), 14 OUTPUT D (out)

## LT1058CN
designator U?
Quad Channel, Low offset JFET Operational Amplifier, 5 MHz Typical GBW, 14 V/us Typical SR, 8 to 40 V, 14-Pin DIP (N-14), Commerical; Linear Technology Part Number: LT1058; Manufacturer: Linear Technology; PartNumber: LT1058CN; Channels (#): 4; GBW (MHz) Typical: 5; Is (mA) Typical: 1.6; SR (V/us) Typical: 14; Vos (mV) Typical: 0.18; Vs Max (V): 40; Vs Min (V): 8; DatasheetVersion: Rev. D; PackageVersion: Rev I; PackageReference: LT-N-14; PackageDescription: 14-Lead PDIP, Body 19.558 x 6.477 mm, Pitch 2.54 mm; Supplier 1: Digi-Key; Supplier Part Number 1: LT1058CN-ND; Supplier 2: Newark; Supplier Part Number 2: 57M1231; Type: JFET; Mounting Technology: Through Hole; ComponentLink1Description: Manufacturer URL; ComponentLink1URL: http://www.linear.com/; ComponentLink2Description: Datasheet; ComponentLink2URL: http://cds.linear.com/docs/en/datasheet/10578fd.pdf; ComponentLink3Description: Package Specification; ComponentLink3URL: http://cds.linear.com/docs/en/packaging/05081510_I_N14.pdf
footprint LT-N-14 (DIP, 14-Leads, Body 19.558x6.477mm, Pitch 2.54mm)
pins on every part: 4 V+ (power), 11 V- (power)
part A pins: 1 OUTPUT A (out), 2 -IN A (in), 3 +IN A (in)
part B pins: 5 +IN B (in), 6 -IN B (in), 7 OUTPUT B (out)
part C pins: 8 OUTPUT C (out), 9 -IN C (in), 10 +IN C (in)
part D pins: 12 +IN D (in), 13 -IN D (in), 14 OUTPUT D (out)

## LT1058CN#PBF
designator U?
Quad Channel, Low offset JFET Operational Amplifier, 5 MHz Typical GBW, 14 V/us Typical SR, 8 to 40 V, 14-Pin DIP (N-14), Commerical, Pb-Free; Linear Technology Part Number: LT1058; Manufacturer: Linear Technology; PartNumber: LT1058CN#PBF; Channels (#): 4; GBW (MHz) Typical: 5; Is (mA) Typical: 1.6; SR (V/us) Typical: 14; Vos (mV) Typical: 0.18; Vs Max (V): 40; Vs Min (V): 8; DatasheetVersion: Rev. D; PackageVersion: Rev I; PackageReference: LT-N-14; PackageDescription: 14-Lead PDIP, Body 19.558 x 6.477 mm, Pitch 2.54 mm; Supplier 1: Digi-Key; Supplier Part Number 1: LT1058CN#PBF-ND; Supplier 2: Farnell; Supplier Part Number 2: 1498466; Supplier 3: Newark; Supplier Part Number 3: 57M1232; RoHS: Pb-Free; Type: JFET; Mounting Technology: Through Hole; ComponentLink1Description: Manufacturer URL; ComponentLink1URL: http://www.linear.com/; ComponentLink2Description: Datasheet; ComponentLink2URL: http://cds.linear.com/docs/en/datasheet/10578fd.pdf; ComponentLink3Description: Package Specification; ComponentLink3URL: http://cds.linear.com/docs/en/packaging/05081510_I_N14.pdf
footprint LT-N-14 (DIP, 14-Leads, Body 19.558x6.477mm, Pitch 2.54mm)
pins on every part: 4 V+ (power), 11 V- (power)
part A pins: 1 OUTPUT A (out), 2 -IN A (in), 3 +IN A (in)
part B pins: 5 +IN B (in), 6 -IN B (in), 7 OUTPUT B (out)
part C pins: 8 OUTPUT C (out), 9 -IN C (in), 10 +IN C (in)
part D pins: 12 +IN D (in), 13 -IN D (in), 14 OUTPUT D (out)

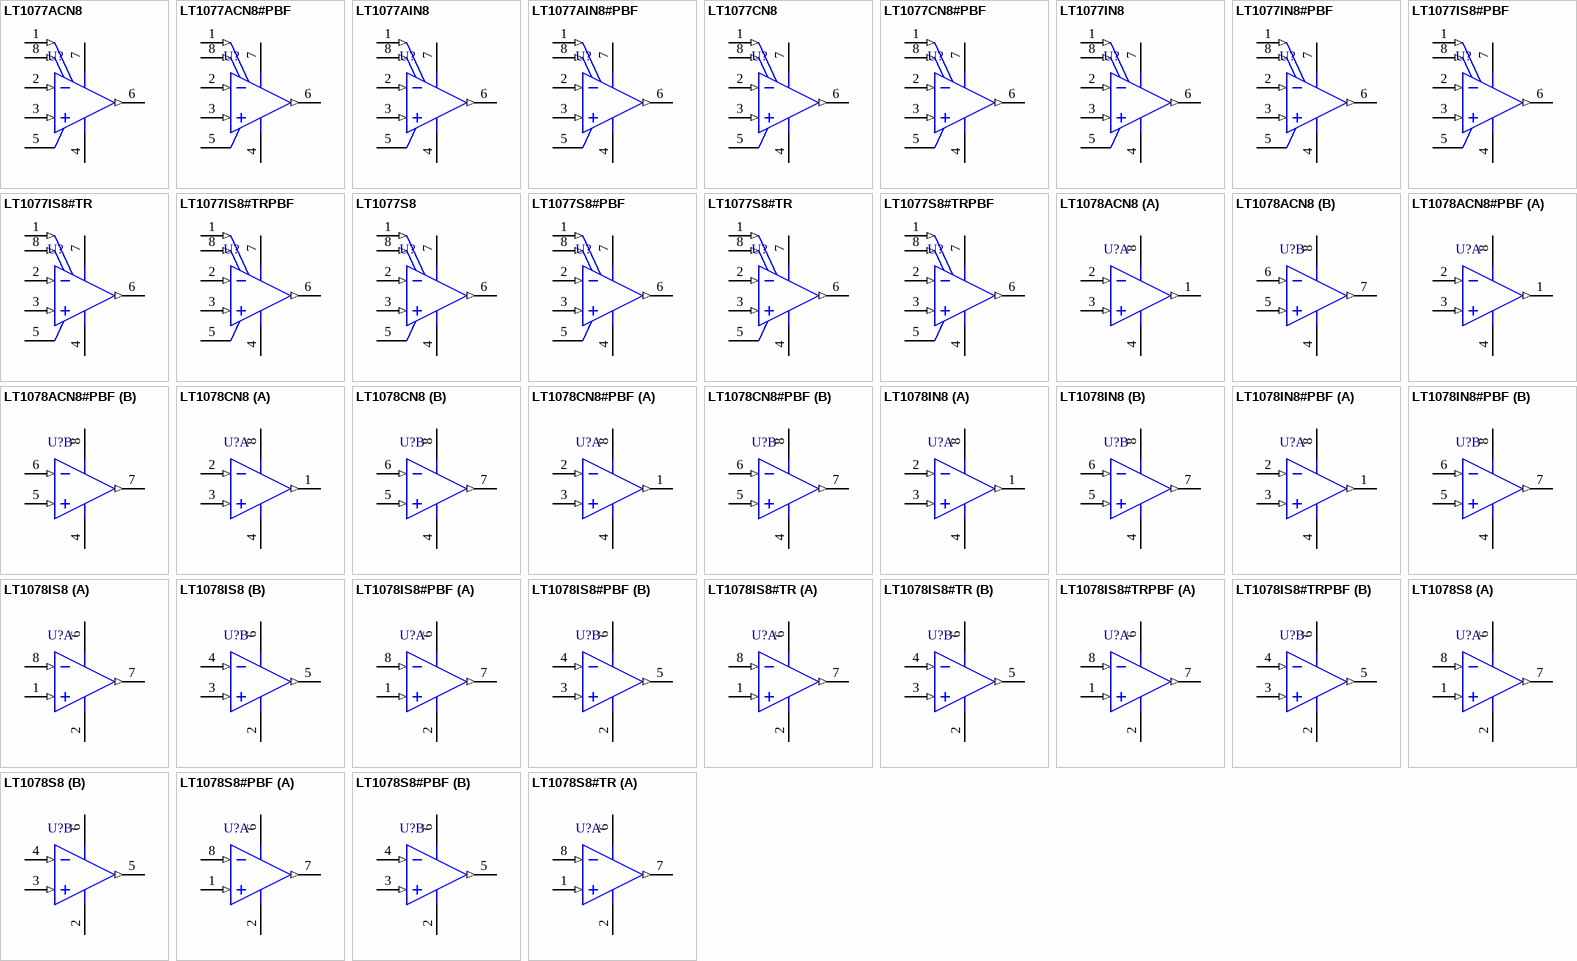
[diagram p5: symbols LT1077ACN8 to LT1078S8#TR]

## LT1077ACN8
designator U?
Single Channel, High Precision Single Supply Operational Amplifier, 0.23 MHz Typical GBW, 0.08 V/us Typical SR, 2.2 to 44 V, 8-Pin DIP (N8-8), Commercial; Linear Technology Part Number: LT1077; Manufacturer: Linear Technology; PartNumber: LT1077ACN8; Channels (#): 1; GBW (MHz) Typical: 0.23; Is (mA) Typical: 0.048; SR (V/us) Typical: 0.08; Vos (mV) Typical: 0.009; Vs Max (V): 44; Vs Min (V): 2.2; DatasheetVersion: Rev. A; PackageVersion: Rev I; PackageReference: LT-N8-8; PackageDescription: 8-Lead PDIP, Body 10.16 x 6.48 mm, Pitch 2.54 mm; Supplier 1: Digi-Key; Supplier Part Number 1: LT1077ACN8-ND; Type: VFB; Mounting Technology: Through Hole; ComponentLink1Description: Manufacturer URL; ComponentLink1URL: http://www.linear.com/; ComponentLink2Description: Datasheet; ComponentLink2URL: http://cds.linear.com/docs/en/datasheet/1077fa.pdf; ComponentLink3Description: Package Specification; ComponentLink3URL: http://cds.linear.com/docs/en/packaging/05081510_I_N8.pdf
footprint LT-N8-8 (DIP, 8-Leads, Body 10.16x6.48mm, Pitch 2.54mm)
pins: 1 VOS TRIM (in), 2 -IN (in), 3 +IN (in), 4 V- (power), 5 NC, 6 OUT (out), 7 V+ (power), 8 VOS TRIM (in)

## LT1077ACN8#PBF
designator U?
Single Channel, High Precision Single Supply Operational Amplifier, 0.23 MHz Typical GBW, 0.08 V/us Typical SR, 2.2 to 44 V, 8-Pin DIP (N8-8), Commercial, Pb-Free; Linear Technology Part Number: LT1077; Manufacturer: Linear Technology; PartNumber: LT1077ACN8#PBF; Channels (#): 1; GBW (MHz) Typical: 0.23; Is (mA) Typical: 0.048; SR (V/us) Typical: 0.08; Vos (mV) Typical: 0.009; Vs Max (V): 44; Vs Min (V): 2.2; DatasheetVersion: Rev. A; PackageVersion: Rev I; PackageReference: LT-N8-8; PackageDescription: 8-Lead PDIP, Body 10.16 x 6.48 mm, Pitch 2.54 mm; Supplier 1: Digi-Key; Supplier Part Number 1: LT1077ACN8#PBF-ND; Supplier 2: Newark; Supplier Part Number 2: 57M1386; RoHS: Pb-Free; Type: VFB; Mounting Technology: Surface Mount; ComponentLink1Description: Manufacturer URL; ComponentLink1URL: http://www.linear.com/; ComponentLink2Description: Datasheet; ComponentLink2URL: http://cds.linear.com/docs/en/datasheet/1077fa.pdf; ComponentLink3Description: Package Specification; ComponentLink3URL: http://cds.linear.com/docs/en/packaging/05081510_I_N8.pdf
footprint LT-N8-8 (DIP, 8-Leads, Body 10.16x6.48mm, Pitch 2.54mm)
pins: 1 VOS TRIM (in), 2 -IN (in), 3 +IN (in), 4 V- (power), 5 NC, 6 OUT (out), 7 V+ (power), 8 VOS TRIM (in)

## LT1077AIN8
designator U?
Single Channel, High Precision Single Supply Operational Amplifier, 0.23 MHz Typical GBW, 0.08 V/us Typical SR, 2.2 to 44 V, 8-Pin DIP (N8-8), Industrial; Linear Technology Part Number: LT1077; Manufacturer: Linear Technology; PartNumber: LT1077AIN8; Channels (#): 1; GBW (MHz) Typical: 0.23; Is (mA) Typical: 0.048; SR (V/us) Typical: 0.08; Vos (mV) Typical: 0.009; Vs Max (V): 44; Vs Min (V): 2.2; DatasheetVersion: Rev. A; PackageVersion: Rev I; PackageReference: LT-N8-8; PackageDescription: 8-Lead PDIP, Body 10.16 x 6.48 mm, Pitch 2.54 mm; Supplier 1: Digi-Key; Supplier Part Number 1: LT1077AIN8-ND; Type: VFB; Mounting Technology: Through Hole; ComponentLink1Description: Manufacturer URL; ComponentLink1URL: http://www.linear.com/; ComponentLink2Description: Datasheet; ComponentLink2URL: http://cds.linear.com/docs/en/datasheet/1077fa.pdf; ComponentLink3Description: Package Specification; ComponentLink3URL: http://cds.linear.com/docs/en/packaging/05081510_I_N8.pdf
footprint LT-N8-8 (DIP, 8-Leads, Body 10.16x6.48mm, Pitch 2.54mm)
pins: 1 VOS TRIM (in), 2 -IN (in), 3 +IN (in), 4 V- (power), 5 NC, 6 OUT (out), 7 V+ (power), 8 VOS TRIM (in)

## LT1077AIN8#PBF
designator U?
Single Channel, High Precision Single Supply Operational Amplifier, 0.23 MHz Typical GBW, 0.08 V/us Typical SR, 2.2 to 44 V, 8-Pin DIP (N8-8), Industrial, Pb-Free; Linear Technology Part Number: LT1077; Manufacturer: Linear Technology; PartNumber: LT1077AIN8#PBF; Channels (#): 1; GBW (MHz) Typical: 0.23; Is (mA) Typical: 0.048; SR (V/us) Typical: 0.08; Vos (mV) Typical: 0.009; Vs Max (V): 44; Vs Min (V): 2.2; DatasheetVersion: Rev. A; PackageVersion: Rev I; PackageReference: LT-N8-8; PackageDescription: 8-Lead PDIP, Body 10.16 x 6.48 mm, Pitch 2.54 mm; Supplier 1: Digi-Key; Supplier Part Number 1: LT1077AIN8#PBF-ND; RoHS: Pb-Free; Type: VFB; Mounting Technology: Through Hole; ComponentLink1Description: Manufacturer URL; ComponentLink1URL: http://www.linear.com/; ComponentLink2Description: Datasheet; ComponentLink2URL: http://cds.linear.com/docs/en/datasheet/1077fa.pdf; ComponentLink3Description: Package Specification; ComponentLink3URL: http://cds.linear.com/docs/en/packaging/05081510_I_N8.pdf
footprint LT-N8-8 (DIP, 8-Leads, Body 10.16x6.48mm, Pitch 2.54mm)
pins: 1 VOS TRIM (in), 2 -IN (in), 3 +IN (in), 4 V- (power), 5 NC, 6 OUT (out), 7 V+ (power), 8 VOS TRIM (in)

## LT1077CN8
designator U?
Single Channel, High Precision Single Supply Operational Amplifier, 0.23 MHz Typical GBW, 0.08 V/us Typical SR, 2.2 to 44 V, 8-Pin DIP (N8-8), Commercial; Linear Technology Part Number: LT1077; Manufacturer: Linear Technology; PartNumber: LT1077CN8; Channels (#): 1; GBW (MHz) Typical: 0.23; Is (mA) Typical: 0.048; SR (V/us) Typical: 0.08; Vos (mV) Typical: 0.009; Vs Max (V): 44; Vs Min (V): 2.2; DatasheetVersion: Rev. A; PackageVersion: Rev I; PackageReference: LT-N8-8; PackageDescription: 8-Lead PDIP, Body 10.16 x 6.48 mm, Pitch 2.54 mm; Supplier 1: Digi-Key; Supplier Part Number 1: LT1077CN8-ND; Type: VFB; Mounting Technology: Through Hole; ComponentLink1Description: Manufacturer URL; ComponentLink1URL: http://www.linear.com/; ComponentLink2Description: Datasheet; ComponentLink2URL: http://cds.linear.com/docs/en/datasheet/1077fa.pdf; ComponentLink3Description: Package Specification; ComponentLink3URL: http://cds.linear.com/docs/en/packaging/05081510_I_N8.pdf
footprint LT-N8-8 (DIP, 8-Leads, Body 10.16x6.48mm, Pitch 2.54mm)
pins: 1 VOS TRIM (in), 2 -IN (in), 3 +IN (in), 4 V- (power), 5 NC, 6 OUT (out), 7 V+ (power), 8 VOS TRIM (in)

## LT1077CN8#PBF
designator U?
Single Channel, High Precision Single Supply Operational Amplifier, 0.23 MHz Typical GBW, 0.08 V/us Typical SR, 2.2 to 44 V, 8-Pin DIP (N8-8), Commercial, Pb-Free; Linear Technology Part Number: LT1077; Manufacturer: Linear Technology; PartNumber: LT1077CN8#PBF; Channels (#): 1; GBW (MHz) Typical: 0.23; Is (mA) Typical: 0.048; SR (V/us) Typical: 0.08; Vos (mV) Typical: 0.009; Vs Max (V): 44; Vs Min (V): 2.2; DatasheetVersion: Rev. A; PackageVersion: Rev I; PackageReference: LT-N8-8; PackageDescription: 8-Lead PDIP, Body 10.16 x 6.48 mm, Pitch 2.54 mm; Supplier 1: Digi-Key; Supplier Part Number 1: LT1077CN8#PBF-ND; Supplier 2: Farnell; Supplier Part Number 2: 9559663; Supplier 3: Newark; Supplier Part Number 3: 57M1390; RoHS: Pb-Free; Type: VFB; Mounting Technology: Through Hole; ComponentLink1Description: Manufacturer URL; ComponentLink1URL: http://www.linear.com/; ComponentLink2Description: Datasheet; ComponentLink2URL: http://cds.linear.com/docs/en/datasheet/1077fa.pdf; ComponentLink3Description: Package Specification; ComponentLink3URL: http://cds.linear.com/docs/en/packaging/05081510_I_N8.pdf
footprint LT-N8-8 (DIP, 8-Leads, Body 10.16x6.48mm, Pitch 2.54mm)
pins: 1 VOS TRIM (in), 2 -IN (in), 3 +IN (in), 4 V- (power), 5 NC, 6 OUT (out), 7 V+ (power), 8 VOS TRIM (in)

## LT1077IN8
designator U?
Single Channel, High Precision Single Supply Operational Amplifier, 0.23 MHz Typical GBW, 0.08 V/us Typical SR, 2.2 to 44 V, 8-Pin DIP (N8-8), Industrial; Linear Technology Part Number: LT1077; Manufacturer: Linear Technology; PartNumber: LT1077IN8; Channels (#): 1; GBW (MHz) Typical: 0.23; Is (mA) Typical: 0.048; SR (V/us) Typical: 0.08; Vos (mV) Typical: 0.009; Vs Max (V): 44; Vs Min (V): 2.2; DatasheetVersion: Rev. A; PackageVersion: Rev I; PackageReference: LT-N8-8; PackageDescription: 8-Lead PDIP, Body 10.16 x 6.48 mm, Pitch 2.54 mm; Supplier 1: Digi-Key; Supplier Part Number 1: LT1077IN8-ND; Type: VFB; Mounting Technology: Through Hole; ComponentLink1Description: Manufacturer URL; ComponentLink1URL: http://www.linear.com/; ComponentLink2Description: Datasheet; ComponentLink2URL: http://cds.linear.com/docs/en/datasheet/1077fa.pdf; ComponentLink3Description: Package Specification; ComponentLink3URL: http://cds.linear.com/docs/en/packaging/05081510_I_N8.pdf
footprint LT-N8-8 (DIP, 8-Leads, Body 10.16x6.48mm, Pitch 2.54mm)
pins: 1 VOS TRIM (in), 2 -IN (in), 3 +IN (in), 4 V- (power), 5 NC, 6 OUT (out), 7 V+ (power), 8 VOS TRIM (in)

## LT1077IN8#PBF
designator U?
Single Channel, High Precision Single Supply Operational Amplifier, 0.23 MHz Typical GBW, 0.08 V/us Typical SR, 2.2 to 44 V, 8-Pin DIP (N8-8), Industrial, Pb-Free; Linear Technology Part Number: LT1077; Manufacturer: Linear Technology; PartNumber: LT1077IN8#PBF; Channels (#): 1; GBW (MHz) Typical: 0.23; Is (mA) Typical: 0.048; SR (V/us) Typical: 0.08; Vos (mV) Typical: 0.009; Vs Max (V): 44; Vs Min (V): 2.2; DatasheetVersion: Rev. A; PackageVersion: Rev I; PackageReference: LT-N8-8; PackageDescription: 8-Lead PDIP, Body 10.16 x 6.48 mm, Pitch 2.54 mm; Supplier 1: Digi-Key; Supplier Part Number 1: LT1077IN8#PBF-ND; Supplier 2: Farnell; Supplier Part Number 2: 2211387; Supplier 3: Newark; Supplier Part Number 3: 57M1392; RoHS: Pb-Free; Type: VFB; Mounting Technology: Through Hole; ComponentLink1Description: Manufacturer URL; ComponentLink1URL: http://www.linear.com/; ComponentLink2Description: Datasheet; ComponentLink2URL: http://cds.linear.com/docs/en/datasheet/1077fa.pdf; ComponentLink3Description: Package Specification; ComponentLink3URL: http://cds.linear.com/docs/en/packaging/05081510_I_N8.pdf
footprint LT-N8-8 (DIP, 8-Leads, Body 10.16x6.48mm, Pitch 2.54mm)
pins: 1 VOS TRIM (in), 2 -IN (in), 3 +IN (in), 4 V- (power), 5 NC, 6 OUT (out), 7 V+ (power), 8 VOS TRIM (in)

## LT1077IS8#PBF
designator U?
Single Channel, High Precision Single Supply Operational Amplifier, 0.23 MHz Typical GBW, 0.08 V/us Typical SR, 2.2 to 44 V, 8-Pin SOIC (S8-8), Industrial, Pb-Free; Linear Technology Part Number: LT1077; Manufacturer: Linear Technology; PartNumber: LT1077IS8#PBF; Channels (#): 1; GBW (MHz) Typical: 0.23; Is (mA) Typical: 0.048; SR (V/us) Typical: 0.08; Vos (mV) Typical: 0.009; Vs Max (V): 44; Vs Min (V): 2.2; DatasheetVersion: Rev. A; PackageVersion: Rev G; PackageReference: LT-S8-8; PackageDescription: 8-Pin Plastic Small Outline, Body 4.9 x 3.9 mm, Pitch 1.27 mm; Supplier 1: Digi-Key; Supplier Part Number 1: LT1077IS8#PBF-ND; Supplier 2: Farnell; Supplier Part Number 2: 1663345; Supplier 3: Newark; Supplier Part Number 3: 57M1394; RoHS: Pb-Free; Type: VFB; Mounting Technology: Surface Mount; ComponentLink1Description: Manufacturer URL; ComponentLink1URL: http://www.linear.com/; ComponentLink2Description: Datasheet; ComponentLink2URL: http://cds.linear.com/docs/en/datasheet/1077fa.pdf; ComponentLink3Description: Package Specification; ComponentLink3URL: http://cds.linear.com/docs/en/packaging/05081610_G_SO8.pdf
footprint LT-S8-8_N (SOIC, 8-Leads, Body 4.9x3.9mm, Pitch 1.27mm, IPC Medium Density)
footprint LT-S8-8_L (SOIC, 8-Leads, Body 4.9x3.9mm, Pitch 1.27mm, IPC High Density)
footprint LT-S8-8_M (SOIC, 8-Leads, Body 4.9x3.9mm, Pitch 1.27mm, IPC Low Density)
pins: 1 VOS TRIM (in), 2 -IN (in), 3 +IN (in), 4 V- (power), 5 NC, 6 OUT (out), 7 V+ (power), 8 VOS TRIM (in)